# EAGLE library part RASPBERRY_PI_3B (library ecar)
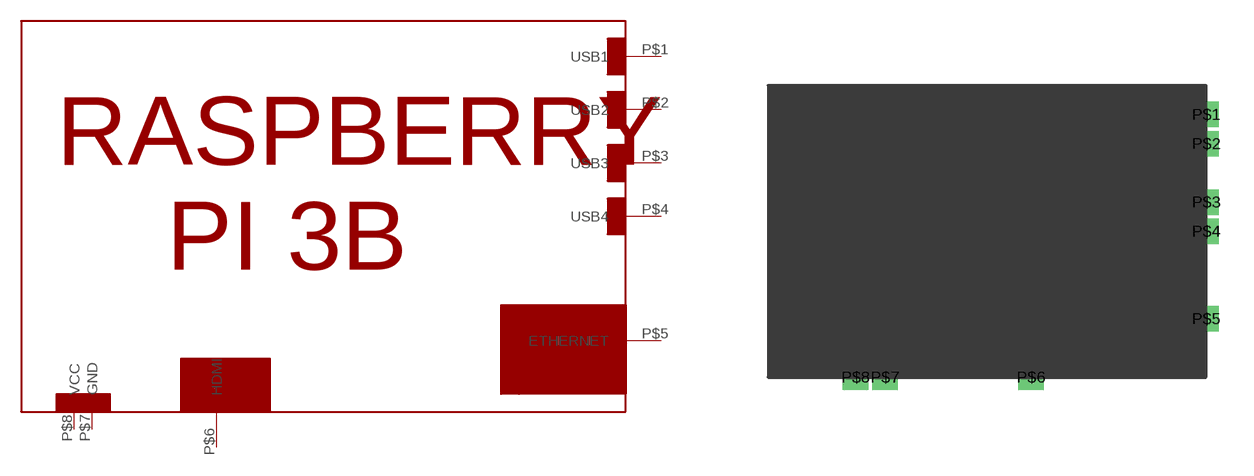
[diagram p11: symbol with the pads of RASPBERRY_PI_3B; footprint RASPBERRY_PI_3B]

Designator prefix -

## RASPBERRY_PI_3B  [RASPBERRY_PI_3B]
P$1  USB1
P$2  USB2
P$3  USB3
P$4  USB4
P$5  ETHERNET
P$6  HDMI
P$7  GND
P$8  VCC

## Footprint RASPBERRY_PI_3B (pad centres in mm)
drill 0.6 square: P$1 20.32,11.43; P$2 20.32,10.16; P$3 20.32,7.62; P$4 20.32,6.35; P$5 20.32,2.54; P$6 12.7,0; P$7 6.35,0; P$8 5.08,0